# EAGLE library part SMARTPRJ_FT232RL (library custom)
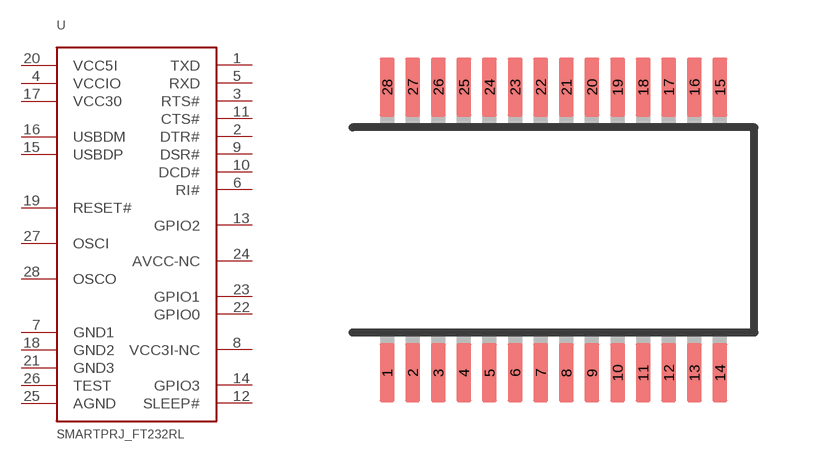
[diagram p15: symbol with the pads of SMARTPRJ_SSOP28; footprint SMARTPRJ_SSOP28]

Designator prefix -

## SMARTPRJ_FT232RL  [SMARTPRJ_SSOP28]
1  TXD  out
2  DTR#  out
3  RTS#  out
4  VCCIO  pwr
5  RXD  in
6  RI#  in
7  GND1  pwr
8  VCC3I-NC  nc
9  DSR#  in
10  DCD#  in
11  CTS#  in
12  SLEEP#  in
13  GPIO2  out
14  GPIO3  in
15  USBDP
16  USBDM
17  VCC30  pwr
18  GND2  pwr
19  RESET#  in
20  VCC5I  pwr
21  GND3  pwr
22  GPIO0  out
23  GPIO1  out
24  AVCC-NC  nc
25  AGND  pwr
26  TEST  in
27  OSCI  in
28  OSCO  out

## Footprint SMARTPRJ_SSOP28 (pad centres in mm)
Shrink Small Outline Package package type SS
smd 0.381 x 1.499: 1 -4.225,-3.625; 2 -3.575,-3.625; 3 -2.925,-3.625; 4 -2.275,-3.625; 5 -1.625,-3.625; 6 -0.975,-3.625; 7 -0.325,-3.625; 8 0.325,-3.625; 9 0.975,-3.625; 10 1.625,-3.625; 11 2.275,-3.625; 12 2.925,-3.625; 13 3.575,-3.625; 14 4.225,-3.625; 15 4.225,3.625; 16 3.575,3.625; 17 2.925,3.625; 18 2.275,3.625; 19 1.625,3.625; 20 0.975,3.625; 21 0.325,3.625; 22 -0.325,3.625; 23 -0.975,3.625; 24 -1.625,3.625; 25 -2.275,3.625; 26 -2.925,3.625; 27 -3.575,3.625; 28 -4.225,3.625